# EAGLE library part IA4420 (library ia442x)
Integration Associate -- IA4420 315, 433, 868 and 915 MHz bands 2.2 to 5.4 V supply voltage
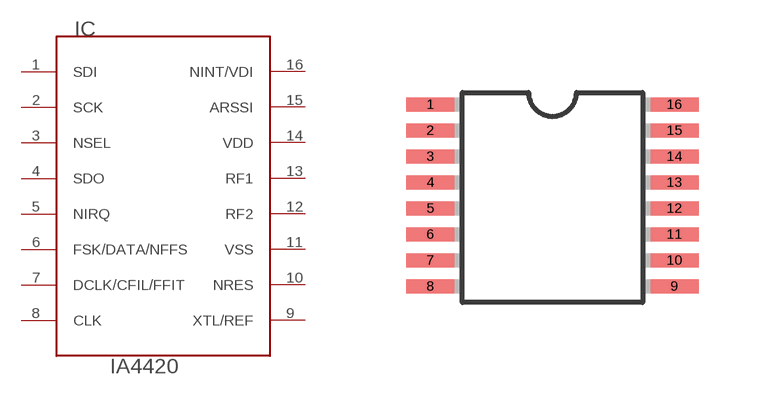
[diagram p0: symbol with the pads of TSSOP; footprint TSSOP]

Designator prefix IC

## IA4420  [TSSOP]
1  SDI
2  SCK
3  NSEL
4  SDO
5  NIRQ
6  FSK/DATA/NFFS
7  DCLK/CFIL/FFIT
8  CLK
9  XTL/REF
10  NRES
11  VSS
12  RF2
13  RF1
14  VDD
15  ARSSI
16  NINT/VDI

## Footprint TSSOP (pad centres in mm)
Integration Associate -- IA442X ISM RF Devices
smd 1.2 x 0.35: 1 -3.107,3.545; 2 -3.107,2.895; 3 -3.107,2.245; 4 -3.107,1.595; 5 -3.107,0.945; 6 -3.107,0.295; 7 -3.107,-0.355; 8 -3.107,-1.005; 9 2.993,-1.005; 10 2.993,-0.355; 11 2.993,0.295; 12 2.993,0.945; 13 2.993,1.595; 14 2.993,2.245; 15 2.993,2.895; 16 2.993,3.545